# EAGLE library part NUCLEO-F303K8 (library STM32)
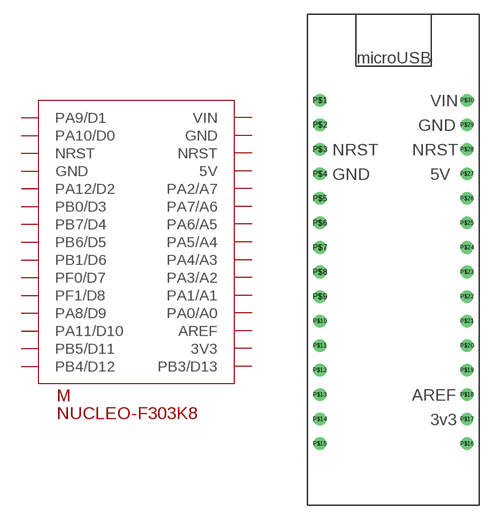
[diagram p0: symbol with the pads of NUCLEO-F303K8; footprint NUCLEO-F303K8]

Designator prefix M

## NUCLEO-F303K8  [NUCLEO-F303K8]
P$1  PA9/D1
P$2  PA10/D0
P$3  NRST
P$4  GND
P$5  PA12/D2
P$6  PB0/D3
P$7  PB7/D4
P$8  PB6/D5
P$9  PB1/D6
P$10  PF0/D7
P$11  PF1/D8
P$12  PA8/D9
P$13  PA11/D10
P$14  PB5/D11
P$15  PB4/D12
P$16  PB3/D13
P$17  3V3
P$18  AREF
P$19  PA0/A0
P$20  PA1/A1
P$21  PA3/A2
P$22  PA4/A3
P$23  PA5/A4
P$24  PA6/A5
P$25  PA7/A6
P$26  PA2/A7
P$27  5V
P$28  NRST
P$29  GND
P$30  VIN

## Footprint NUCLEO-F303K8 (pad centres in mm)
STM32 Nucleo-32 development board with STM32F303K8 MCU, supports Arduino connectivity
drill 0.8: P$1 0,35.56; P$2 0,33.02; P$3 0,30.48; P$4 0,27.94; P$5 0,25.4; P$6 0,22.86; P$7 0,20.32; P$8 0,17.78; P$9 0,15.24; P$10 0,12.7; P$11 0,10.16; P$12 0,7.62; P$13 0,5.08; P$14 0,2.54; P$15 0,0; P$16 15.24,0; P$17 15.24,2.54; P$18 15.24,5.08; P$19 15.24,7.62; P$20 15.24,10.16; P$21 15.24,12.7; P$22 15.24,15.24; P$23 15.24,17.78; P$24 15.24,20.32; P$25 15.24,22.86; P$26 15.24,25.4; P$27 15.24,27.94; P$28 15.24,30.48; P$29 15.24,33.02; P$30 15.24,35.56